# EAGLE library part MTCH101T-I_OT (library Deegou_IC)
Microchip MTCH101T-I/OT Proximity Sensor IC, 2 5.5 V 6-Pin SOT-23 Source: Datasheet <http://ww1.microchip.com/downloads/en/DeviceDoc/40001664B.pdf>
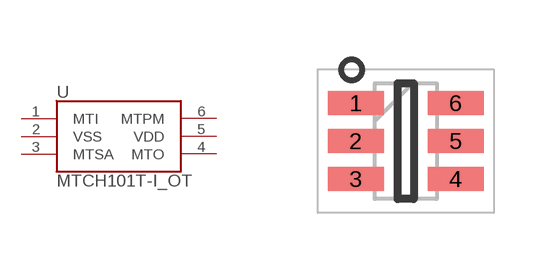
[diagram p70: symbol with the pads of SOT95P270X145-6N; footprint SOT95P270X145-6N]

Designator prefix U

## MTCH101T-I_OT (DESCRIPTION: Microchip MTCH101T-I/OT Proximity Sensor IC, 2 5.5 V 6-Pin SOT-23; HEIGHT: 1.45mm; MANUFACTURER_NAME: Microchip; MANUFACTURER_PART_NUMBER: MTCH101T-I/OT; MOUSER_PART_NUMBER: 579-MTCH101T-I/OT; MOUSER_PRICE-STOCK: https://www.mouser.com/Search/Refine.aspx?Keyword=579-MTCH101T-I%2FOT; RS_PART_NUMBER: 1654220; RS_PRICE-STOCK: http://uk.rs-online.com/web/p/products/1654220)  [SOT95P270X145-6N]
1  MTI  in
2  VSS  pwr
3  MTSA  in
4  MTO  out
5  VDD  pwr
6  MTPM  in

## Footprint SOT95P270X145-6N (pad centres in mm)
6-Lead (OT) SOT-23
smd 1.4 x 0.6: 1 -1.25,0.95; 2 -1.25,0; 3 -1.25,-0.95; 4 1.25,-0.95; 5 1.25,0; 6 1.25,0.95